# Altium footprint library OLED.PcbLib: 1 footprints
Each footprint in its own frame and in the unit in brackets; x right, y up, seen from the top. Pads: shape width x height; smd on the part's side, far side on the other; paste and mask are expansions set on the pad; w line width, h text height; cw(c..) or ccw(c..) is an arc to the next point about the centre after c.
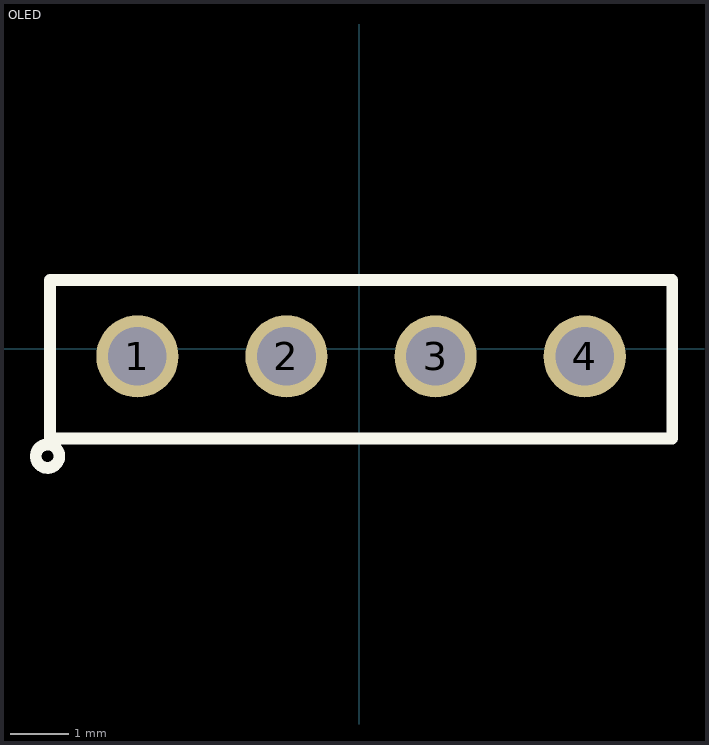
[diagram p0: the footprint, top view; thin cyan lines are the x and y axes]

## OLED [mm]
pads (4):
  round 1.4 / inner round 1.4 / far side oval 1.4x2.2 hole 1 mask+0.1: 1(-3.78,-0.127) 2(-1.24,-0.127) 3(1.3,-0.127) 4(3.84,-0.127)
Top Overlay:
  circle w0.2: c-5.31,-1.827 r0.2
  lines w0.2: -5.27,-1.527 5.33,-1.527 5.33,1.173 -5.27,1.173 -5.27,-1.527
3D body "female_header_a-bl254-eg-g02d.stp": height 8.5, standoff -3.2, extent -0.095,-1.427 5.235,1.073
3D body "female_header_a-bl254-eg-g02d.stp": height 8.5, standoff -3.2, extent -5.175,-1.427 0.155,1.073
3D body "User Library-128x64I2COLEDDisplayAdafruit.step": height 14.17, standoff 3.33, extent -14,-25.995 12.7,1.865